# Altium footprint library 0ZCJ0005FF2E.PcbLib: 5 footprints
Each footprint in its own frame and in the unit in brackets; x right, y up, seen from the top. Pads: shape width x height; smd on the part's side, far side on the other; paste and mask are expansions set on the pad; w line width, h text height; cw(c..) or ccw(c..) is an arc to the next point about the centre after c.
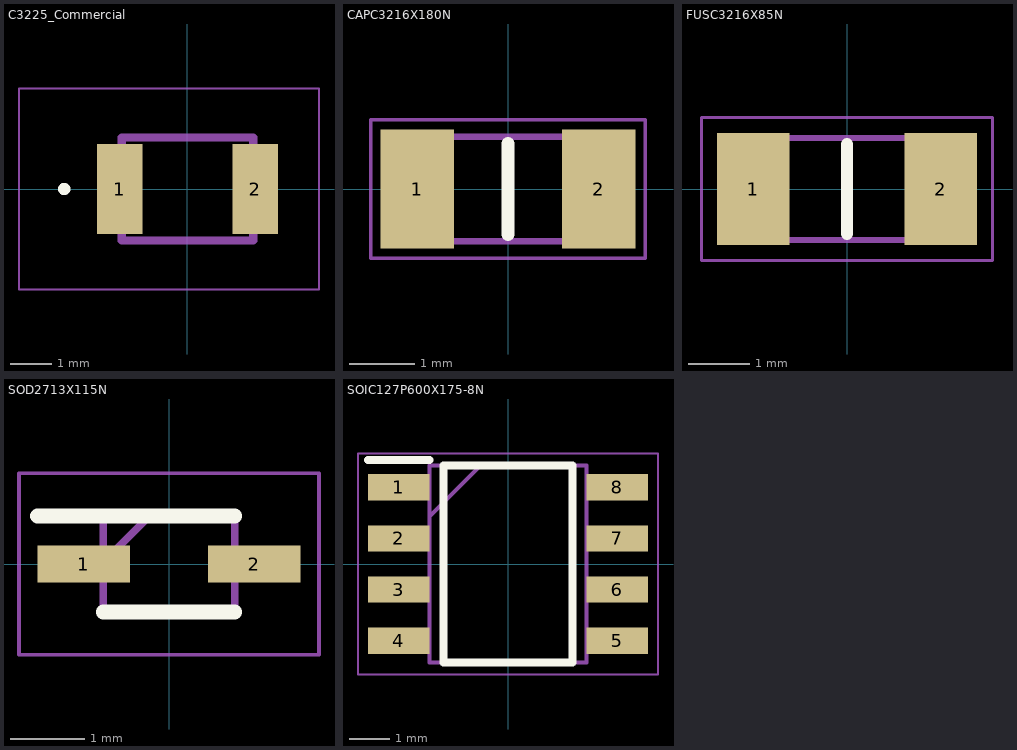
[diagram p0: the footprints below, top view; thin cyan lines are the x and y axes]

## C3225_Commercial [mm]
pads (2):
  rect 1.1x2.2 smd: 1(-1.65,0) 2(1.65,0)
Top Overlay:
  circle w0.2: c-3,0 r0.05
Mechanical 13:
  lines w0.2: -1.6,-1.25 1.6,-1.25 1.6,1.25 -1.6,1.25 -1.6,-1.25
Mechanical 15:
  lines w0.05: -4.1,-2.45 3.2,-2.45 3.2,2.45 -4.1,2.45 -4.1,-2.45
3D body "C3225X6S1H106M250AC.stp": height 2.5, standoff 0, extent -1.6,-1.25 1.6,1.25

## CAPC3216X180N [mm]
pads (2):
  rect 1.13x1.82 smd: 1(-1.39,0) 2(1.39,0)
Top Overlay:
  lines w0.2: 0,-0.7 0,0.7
Mechanical 13:
  lines w0.1: -1.6,-0.8 -1.6,0.8 1.6,0.8 1.6,-0.8 -1.6,-0.8
Mechanical 15:
  lines w0.05: -2.105,-1.06 -2.105,1.06 2.105,1.06 2.105,-1.06 -2.105,-1.06
3D body "CC1206JKX7R9BB105.stp": height 1.8, standoff 0, extent -1.6,-0.8 1.6,0.8

## FUSC3216X85N [mm]
pads (2):
  rect 1.17x1.82 smd: 1(-1.52,0) 2(1.52,0)
Top Overlay:
  lines w0.2: 0,-0.725 0,0.725
Mechanical 13:
  lines w0.1: -1.625,-0.825 -1.625,0.825 1.625,0.825 1.625,-0.825 -1.625,-0.825
Mechanical 15:
  lines w0.05: -2.355,-1.16 -2.355,1.16 2.355,1.16 2.355,-1.16 -2.355,-1.16
3D body "0ZCJ0005FF2E.stp": height 0.85, standoff 0, extent -1.625,-0.825 1.625,0.825

## SOD2713X115N [mm]
pads (2):
  rect 1.25x0.5 smd: 1(-1.15,0) 2(1.15,0)
Top Overlay:
  lines w0.2: -1.775,0.65 0.888,0.65 ; -0.888,-0.65 0.888,-0.65
Mechanical 13:
  lines w0.1: -0.888,0.025 -0.262,0.65 ; -0.888,-0.65 -0.888,0.65 0.888,0.65 0.888,-0.65 -0.888,-0.65
Mechanical 15:
  lines w0.05: -2.025,-1.225 -2.025,1.225 2.025,1.225 2.025,-1.225 -2.025,-1.225
3D body "1N4148WS-HE3-08.stp": height 1.15, standoff 0, extent -1.338,-0.65 1.338,0.65

## SOIC127P600X175-8N [mm]
pads (8):
  rect 1.525x0.65 smd: 1(-2.712,1.905) 2(-2.712,0.635) 3(-2.712,-0.635) 4(-2.712,-1.905) 5(2.712,-1.905) 6(2.712,-0.635) 7(2.712,0.635) 8(2.712,1.905)
Top Overlay:
  lines w0.2: -3.475,2.58 -1.95,2.58 ; -1.6,-2.45 1.6,-2.45 1.6,2.45 -1.6,2.45 -1.6,-2.45
Mechanical 13:
  lines w0.1: -1.95,1.18 -0.68,2.45 ; -1.95,-2.45 1.95,-2.45 1.95,2.45 -1.95,2.45 -1.95,-2.45
Mechanical 15:
  lines w0.05: -3.725,-2.75 3.725,-2.75 3.725,2.75 -3.725,2.75 -3.725,-2.75
3D body "NE555DR.stp": height 1.75, standoff 0, extent -3,-2.45 3,2.45